# Altium schematic symbol library 15-LEDs & Displays+LCD.SchLib: 114 symbols
Pins are listed as number, name and electrical type; pins without a type are passive.

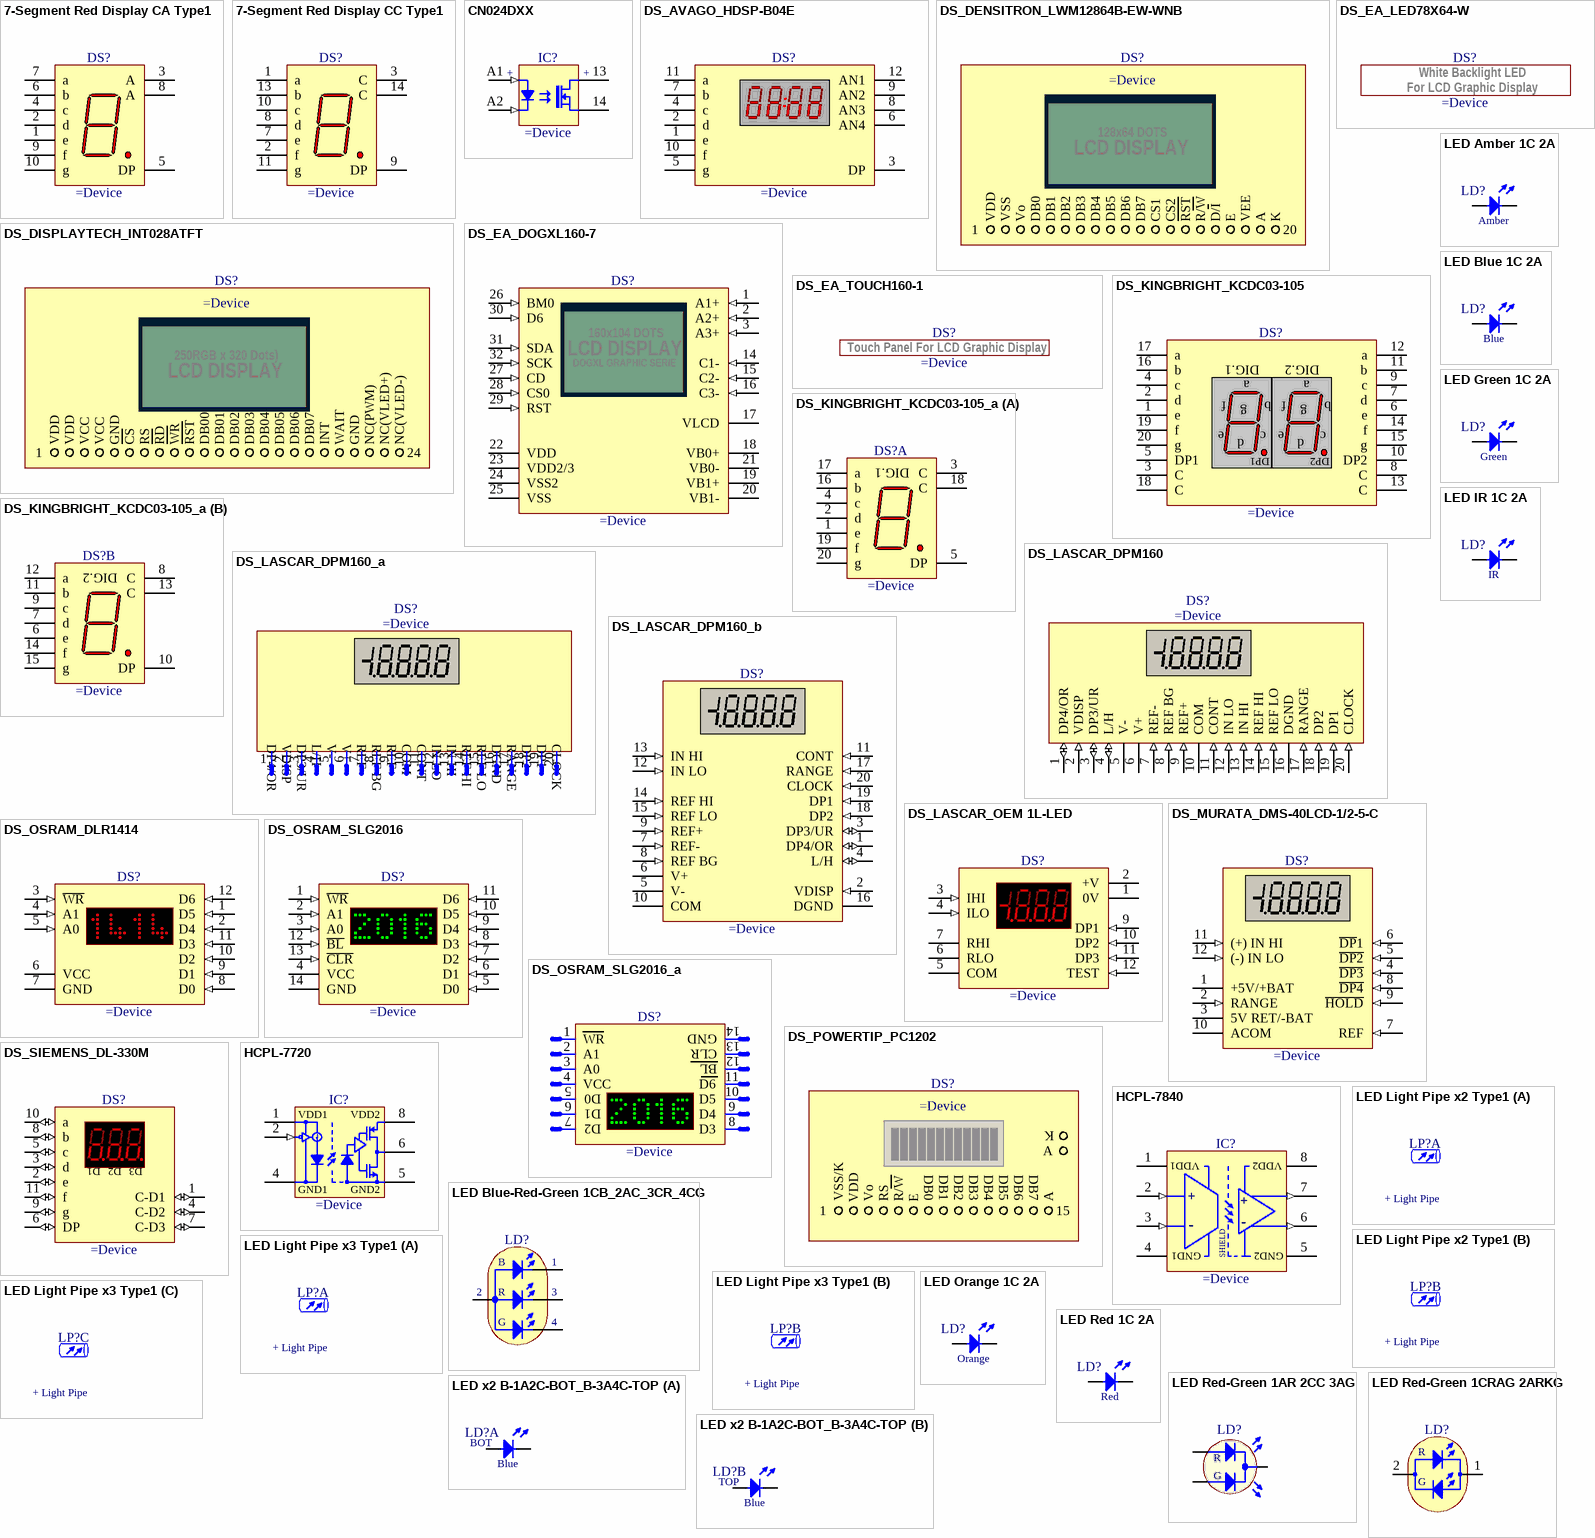
[diagram p0: symbols 7-Segment Red Display CA Type1 to LED x2 B-1A2C-BOT_B-3A4C-TOP]

## 7-Segment Red Display CA Type1
designator DS?
7-Segment Red Display Common Anode
pins: 1 e "Cathode", 2 d "Cathode", 3 A "Anode", 4 c "Cathode", 5 DP "Cathode", 6 b "Cathode", 7 a "Cathode", 8 A "Anode", 9 f "Cathode", 10 g "Cathode"

## 7-Segment Red Display CC Type1
designator DS?
7-Segment Red Display Common Anode
pins: 1 a "Cathode", 2 f "Cathode", 3 C "Anode", 7 e "Cathode", 8 d "Anode", 9 DP "Cathode", 10 c "Cathode", 11 g "Anode", 13 b "Anode", 14 C "Anode"

## CN024DXX
designator IC?
24VDC Solid State Relay
pins: 13, 14, A1 (in), A2 (in)
text: +

## DS_AVAGO_HDSP-B04E
designator DS?
Four Digit 0.56" GaP HER Seven Segment Display
pins: 1 e "Cathode", 2 d "Cathode", 3 DP "Cathode", 4 c "Cathode", 5 g "Cathode", 6 AN4 "Anode", 7 b "Cathode", 8 AN3 "Anode", 9 AN2 "Anode", 10 f "Cathode", 11 a "Cathode", 12 AN1 "Anode"

## DS_DENSITRON_LWM12864B-EW-WNB
designator DS?
LCD Display Module, 128x64 Dots,Transmissive Negative, BL White LED, Wide Temp, Negative Voltage Generator, STN Blue
text: 128x64 DOTS; LCD DISPLAY; VDD; VSS; Vo; DB0; DB1; DB2; DB3; DB4; DB5; DB6; DB7; CS1; CS2; RST; R/W; D/I; E; VEE; A; K; 1; 20

## DS_DISPLAYTECH_INT028ATFT
designator DS?
2.8" Integrated TFT Display Module (250RGB x 320 Dots), Body 71.2 x60mm
text: 250RGB x 320 Dots); LCD DISPLAY; VDD; VCC; GND; CS; RS; RD; WR; RST; DB00; DB01; DB02; DB03; DB04; DB05; DB06; DB07; INT; WAIT; NC(PWM); NC(VLED+); NC(VLED-); 1; 24

## DS_EA_DOGXL160-7
designator DS?
160x104-Pixel  LCD Graphics Display
pins: 1 A1+ (in), 2 A2+ (in), 3 A3+ (in), 14 C1- (in), 15 C2- (in), 16 C3- (in), 17 VLCD (power), 18 VB0+, 19 VB1+, 20 VB1-, 21 VB0-, 22 VDD (power), 23 VDD2/3 (power), 24 VSS2 (power), 25 VSS (power), 26 BM0 (in), 27 CD (in), 28 CS0 (in), 29 RST (in), 30 D6 (in), 31 SDA (in), 32 SCK (in)
text: 160x104 DOTS; LCD DISPLAY; DOGXL GRAPHIC SERIE

## DS_EA_LED78X64-W
designator DS?
White LED Backlight for 60x104-Pixel  LCD Graphics Display
text: White Backlight LED; For LCD Graphic Display

## DS_EA_TOUCH160-1
designator DS?
Analogue Touch Panel For LCD DOGXL160 Graphic Display
text: Touch Panel For LCD Graphic Display

## DS_KINGBRIGHT_KCDC03-105
designator DS?
Dual Digit, SMD 7-Segment Common Cathode Hyper Red Display
pins: 1 e "Cathode", 2 d "Cathode", 3 C "Anode", 4 c "Cathode", 5 DP1 "Cathode", 6 e "Cathode", 7 d "Cathode", 8 C "Anode", 9 c "Cathode", 10 DP2 "Cathode", 11 b "Cathode", 12 a "Cathode", 13 C "Anode", 14 f "Cathode", 15 g "Cathode", 16 b "Cathode", 17 a "Cathode", 18 C "Anode", 19 f "Cathode", 20 g "Cathode"
text: DIG.1; DIG.2

## DS_KINGBRIGHT_KCDC03-105_a
designator DS?
Dual Digit, SMD 7-Segment Common Cathode Hyper Red Display
part A pins: 1 e "Cathode", 2 d "Cathode", 3 C "Anode", 4 c "Cathode", 5 DP "Cathode", 16 b "Cathode", 17 a "Cathode", 18 C "Anode", 19 f "Cathode", 20 g "Cathode"
part B pins: 6 e "Cathode", 7 d "Cathode", 8 C "Anode", 9 c "Cathode", 10 DP "Cathode", 11 b "Cathode", 12 a "Cathode", 13 C "Anode", 14 f "Cathode", 15 g "Cathode"
part A text: DIG.1
part B text: DIG.2

## DS_LASCAR_DPM160
designator DS?
4½ Digit LCD Voltmeter With 12.5mm (0.5") Digit Height
pins: 1 DP4/OR (io), 2 VDISP (in), 3 DP3/UR (io), 4 L/H (io), 5 V- (power), 6 V+ (power), 7 REF- (in), 8 REF BG (in), 9 REF+ (in), 10 COM (power), 11 CONT (in), 12 IN LO (in), 13 IN HI (in), 14 REF HI (in), 15 REF LO (in), 16 DGND (power), 17 RANGE (in), 18 DP2 (in), 19 DP1 (in), 20 CLOCK (in)

## DS_LASCAR_DPM160_a
designator DS?
4½ Digit LCD Voltmeter With 12.5mm (0.5") Digit Height
text: DP4/OR; VDISP; DP3/UR; L/H; V-; V+; REF-; REF BG; REF+; COM; CONT; IN LO; IN HI; REF HI; REF LO; DGND; RANGE; DP2; DP1; CLOCK; 1; 2; 3; 4; 5; 6; 7; 8; 9; 10; 11; 12; 13; 14; 15; 16; 17; 18; 19; 20

## DS_LASCAR_DPM160_b
designator DS?
4½ Digit LCD Voltmeter With 12.5mm (0.5") Digit Height
pins: 1 DP4/OR (io), 2 VDISP (in), 3 DP3/UR (io), 4 L/H (io), 5 V- (power), 6 V+ (power), 7 REF- (in), 8 REF BG (in), 9 REF+ (in), 10 COM (power), 11 CONT (in), 12 IN LO (in), 13 IN HI (in), 14 REF HI (in), 15 REF LO (in), 16 DGND (power), 17 RANGE (in), 18 DP2 (in), 19 DP1 (in), 20 CLOCK (in)

## DS_LASCAR_OEM 1L-LED
designator DS?
3½ Digit LED Voltmeter Module
pins: 1 0V (power), 2 +V (power), 3 IHI (in), 4 ILO (in), 5 COM, 6 RLO, 7 RHI, 9 DP1 (in) "Data Input", 10 DP2 (in) "Data Input", 11 DP3 (in) "Data Input", 12 TEST (in) "Data Input"

## DS_MURATA_DMS-40LCD-1/2-5-C
designator DS?
±2V/±20V Input, Single 5V Supply, 4 1/2 Digit, LCD Display Digital Panel Voltmeters
pins: 1 +5V/+BAT (power), 2 RANGE (in), 3 5V RET/-BAT (power), 4 ~{DP3} (in), 5 ~{DP2} (in), 6 ~{DP}1 (in), 7 REF (in), 8 ~{DP4} (in), 9 ~{HOLD} (in) "Data Input", 10 ACOM (power) "Data Input", 11 (+) IN HI (in) "Data Input", 12 (-) IN LO (in) "Data Input"

## DS_OSRAM_DLR1414
designator DS?
0.145" 4-Character 5 x 7 Dot Matrix Alphanumeric Intelligent Display® Devices with Memory/Decoder/Driver
pins: 1 D5 (in) "Data Input", 2 D4 (in) "Data Input", 3 ~{WR} (in) "Write", 4 A1 (in) "Digit Select", 5 A0 (in) "Digit Select", 6 VCC (power), 7 GND (power), 8 D0 (in) "Data Input (LSB)", 9 D1 (in) "Data Input", 10 D2 (in) "Data Input", 11 D3 (in) "Data Input", 12 D6 (in) "Data Input"

## DS_OSRAM_SLG2016
designator DS?
0.145" 4-Character 5 x 7 Dot Matrix Alphanumeric Intelligent Display
pins: 1 ~{WR} (in), 2 A1 (in), 3 A0 (in), 4 VCC (power), 5 D0 (in), 6 D1 (in), 7 D2 (in), 8 D3 (in), 9 D4 (in), 10 D5 (in), 11 D6 (in), 12 ~{BL} (in), 13 ~{CLR} (in), 14 GND (power)

## DS_OSRAM_SLG2016_a
designator DS?
0.145" 4-Character 5 x 7 Dot Matrix Alphanumeric Intelligent Display
text: 1; 14; WR; GND; 2; 13; A1; CLR; 3; 12; A0; BL; 4; 11; VCC; D6; 5; 10; D0; D5; 6; 9; D1; D4; 7; 8; D2; D3

## DS_POWERTIP_PC1202
designator DS?
Alphanumeric LCD Display Module, 2 x 12 characters, Dot Size:0.45 x 0.60, Dot Pitch 0.55 x 0.70
text: K; A; VSS/K; VDD; R/W; DB0; DB1; DB2; DB3; DB4; DB5; DB6; DB7; Vo; RS; E; 1; 15

## DS_SIEMENS_DL-330M
designator DS?
Red Seven Segments Magnified Monolithic Numeric Display
pins: 1 C-D1 (io), 2 e (io), 3 d (io), 4 C-D2 (io), 5 c (io), 6 DP (io), 7 C-D3 (io), 8 b (io), 9 g (io), 10 a (io), 11 f (io)
text: D1; D2; D3

## HCPL-7720
designator IC?
40ns Propagation Delay, CMOS Optocoupler
pins: 1 VDD1 (power), 2 VI (in), 3 NC hidden, 4 GND1 (power), 5 GND2 (power), 6 VO (oc), 7 NC hidden, 8 VDD2 (power)

## HCPL-7840
designator IC?
Isolation Amplifier
pins: 1 VDD1 (power), 2 VP (in), 3 VN (in), 4 GND1 (power), 5 GND2 (power), 6 VOUT- (out), 7 VOUT+ (out), 8 VDD2 (power)
text: +; -; SHIELD

## LED Amber 1C 2A
designator LD?
LED Amber 1C 2A
pins: 1 C, 2 A
text: Amber

## LED Blue 1C 2A
designator LD?
LED Blue 1C 2A
pins: 1 C, 2 A
text: Blue

## LED Blue-Red-Green 1CB_2AC_3CR_4CG
designator LD?
Tricolor LEDs 1 Cathode Blue, 2 Common Anode, 3 Cathode Red, 4 Cathode Green
pins: 1 CB, 2 AC, 3 CR, 4 CG
text: B; R; G

## LED Green 1C 2A
designator LD?
LED Green 1C 2A
pins: 1 C, 2 A
text: Green

## LED IR 1C 2A
designator LD?
LED Infrared Emitting Diode 1C 2A
pins: 1 C, 2 A
text: IR

## LED Light Pipe x2 Type1
designator LP?
LED Light Pipe x2 Type1
part A text: + Light Pipe
part B text: + Light Pipe

## LED Light Pipe x3 Type1
designator LP?
LED Light Pipe x3 Type1
part A text: + Light Pipe
part B text: + Light Pipe
part C text: + Light Pipe

## LED Orange 1C 2A
designator LD?
LED Orange 1C 2A
pins: 1 C, 2 A
text: Orange

## LED Red 1C 2A
designator LD?
LED Red 1C 2A
pins: 1 C, 2 A
text: Red

## LED Red-Green 1AR 2CC 3AG
designator LD?
Bicolor Red/Green  LED 1 Anode Red 2 Com Cathode 3 Anode Green
pins: 1 AR, 2 CC, 3 AG
text: R; G

## LED Red-Green 1CRAG 2ARKG
designator LD?
Red/ Green Bi color LED Pin 1 = Cathode Red Anode Green
pins: 1 CR, 2 AR
text: R; G

## LED x2 B-1A2C-BOT_B-3A4C-TOP
designator LD?
LED x2 Blue LED
part A pins: 1 A, 2 C
part B pins: 3 A, 4 C
part A text: BOT; Blue
part B text: TOP; Blue

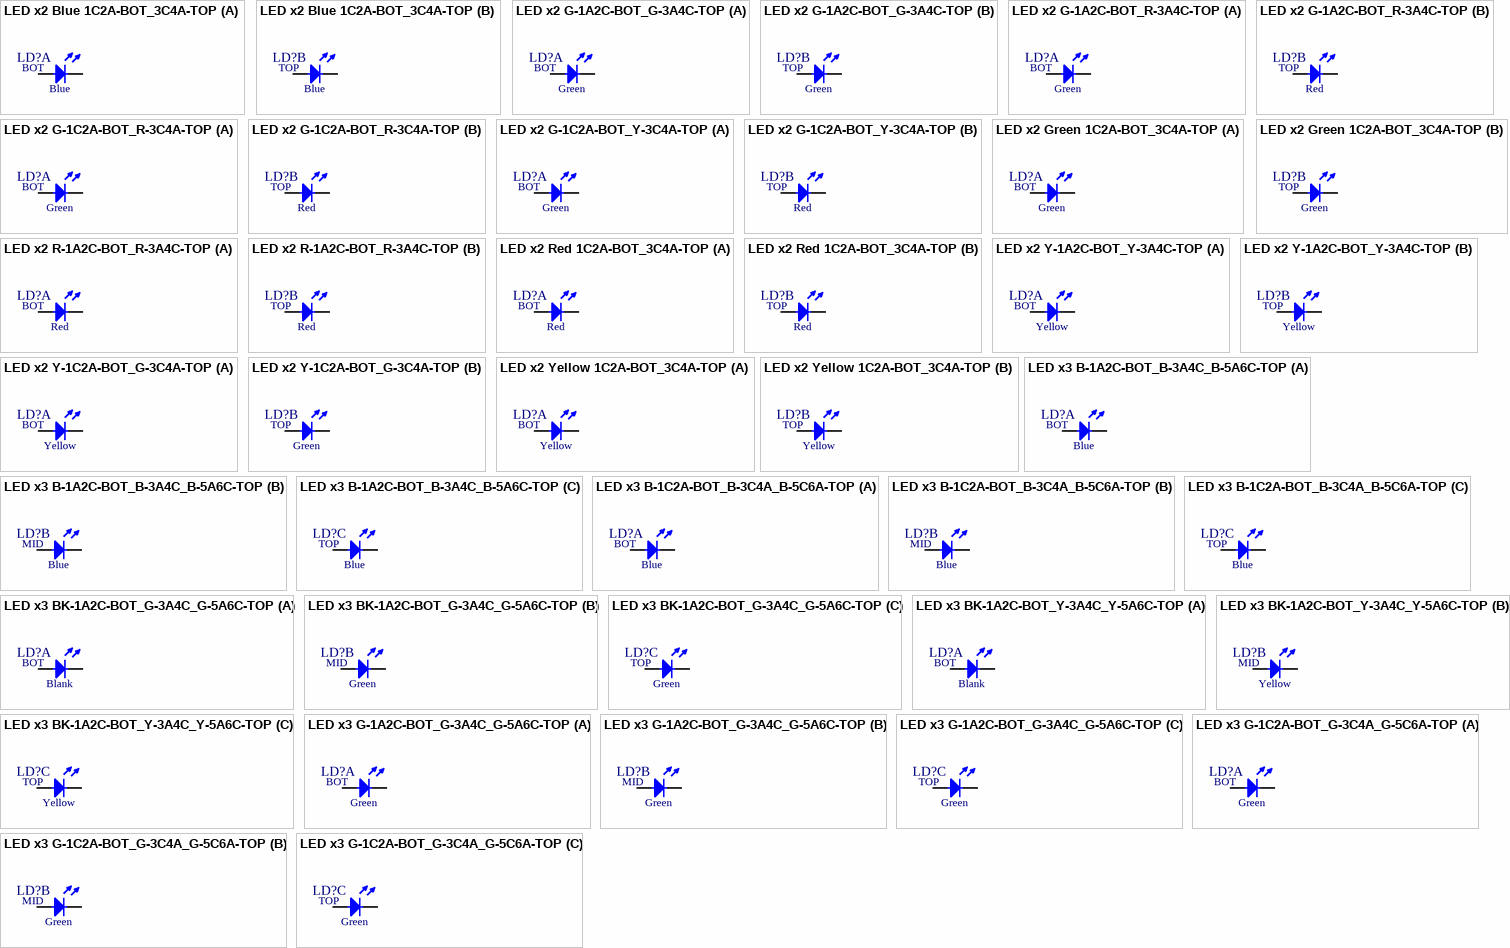
[diagram p1: symbols LED x2 Blue 1C2A-BOT_3C4A-TOP to LED x3 G-1C2A-BOT_G-3C4A_G-5C6A-TOP]

## LED x2 Blue 1C2A-BOT_3C4A-TOP
designator LD?
LED x2 Blue 1C2A-BOT_3C4A-TOP
part A pins: 1 C, 2 A
part B pins: 3 C, 4 A
part A text: BOT; Blue
part B text: TOP; Blue

## LED x2 G-1A2C-BOT_G-3A4C-TOP
designator LD?
LED x2 Green LED
part A pins: 1 A, 2 C
part B pins: 3 A, 4 C
part A text: BOT; Green
part B text: TOP; Green

## LED x2 G-1A2C-BOT_R-3A4C-TOP
designator LD?
LED x2 Green LED + Red LED
part A pins: 1 A, 2 C
part B pins: 3 A, 4 C
part A text: BOT; Green
part B text: TOP; Red

## LED x2 G-1C2A-BOT_R-3C4A-TOP
designator LD?
2x LED  Botom Green, Top Red
part A pins: 1 C, 2 A
part B pins: 3 C, 4 A
part A text: BOT; Green
part B text: TOP; Red

## LED x2 G-1C2A-BOT_Y-3C4A-TOP
designator LD?
2x LED  Botom Green, Top Yellow
part A pins: 1 C, 2 A
part B pins: 3 C, 4 A
part A text: BOT; Green
part B text: TOP; Red

## LED x2 Green 1C2A-BOT_3C4A-TOP
designator LD?
LED x2 Green 1C2A-BOT_3C4A-TOP
part A pins: 1 C, 2 A
part B pins: 3 C, 4 A
part A text: BOT; Green
part B text: TOP; Green

## LED x2 R-1A2C-BOT_R-3A4C-TOP
designator LD?
LED x2 Red LED
part A pins: 1 A, 2 C
part B pins: 3 A, 4 C
part A text: BOT; Red
part B text: TOP; Red

## LED x2 Red 1C2A-BOT_3C4A-TOP
designator LD?
LED x2 Red 1C2A-BOT_3C4A-TOP
part A pins: 1 C, 2 A
part B pins: 3 C, 4 A
part A text: BOT; Red
part B text: TOP; Red

## LED x2 Y-1A2C-BOT_Y-3A4C-TOP
designator LD?
LED x2 Yellow LED
part A pins: 1 A, 2 C
part B pins: 3 A, 4 C
part A text: BOT; Yellow
part B text: TOP; Yellow

## LED x2 Y-1C2A-BOT_G-3C4A-TOP
designator LD?
2x LED  Botom Yellow, Top Green
part A pins: 1 C, 2 A
part B pins: 3 C, 4 A
part A text: BOT; Yellow
part B text: TOP; Green

## LED x2 Yellow 1C2A-BOT_3C4A-TOP
designator LD?
LED x2 Yellow 1C2A-BOT_3C4A-TOP
part A pins: 1 C, 2 A
part B pins: 3 C, 4 A
part A text: BOT; Yellow
part B text: TOP; Yellow

## LED x3 B-1A2C-BOT_B-3A4C_B-5A6C-TOP
designator LD?
LED x3 Blue LED
part A pins: 1 A, 2 C
part B pins: 3 A, 4 C
part C pins: 5 A, 6 C
part A text: BOT; Blue
part B text: MID; Blue
part C text: TOP; Blue

## LED x3 B-1C2A-BOT_B-3C4A_B-5C6A-TOP
designator LD?
LED x3 Blue LED
part A pins: 1 C, 2 A
part B pins: 3 C, 4 A
part C pins: 5 C, 6 A
part A text: BOT; Blue
part B text: MID; Blue
part C text: TOP; Blue

## LED x3 BK-1A2C-BOT_G-3A4C_G-5A6C-TOP
designator LD?
LED x3  Top Green, Middle Green, Bottom Blank
part A pins: 1 A, 2 C
part B pins: 3 A, 4 C
part C pins: 5 A, 6 C
part A text: BOT; Blank
part B text: MID; Green
part C text: TOP; Green

## LED x3 BK-1A2C-BOT_Y-3A4C_Y-5A6C-TOP
designator LD?
LED x3  Top Yellow, Middle Yellow, Bottom Blank
part A pins: 1 A, 2 C
part B pins: 3 A, 4 C
part C pins: 5 A, 6 C
part A text: BOT; Blank
part B text: MID; Yellow
part C text: TOP; Yellow

## LED x3 G-1A2C-BOT_G-3A4C_G-5A6C-TOP
designator LD?
LED x3 Green LED
part A pins: 1 A, 2 C
part B pins: 3 A, 4 C
part C pins: 5 A, 6 C
part A text: BOT; Green
part B text: MID; Green
part C text: TOP; Green

## LED x3 G-1C2A-BOT_G-3C4A_G-5C6A-TOP
designator LD?
LED x3 Green LED
part A pins: 1 C, 2 A
part B pins: 3 C, 4 A
part C pins: 5 C, 6 A
part A text: BOT; Green
part B text: MID; Green
part C text: TOP; Green

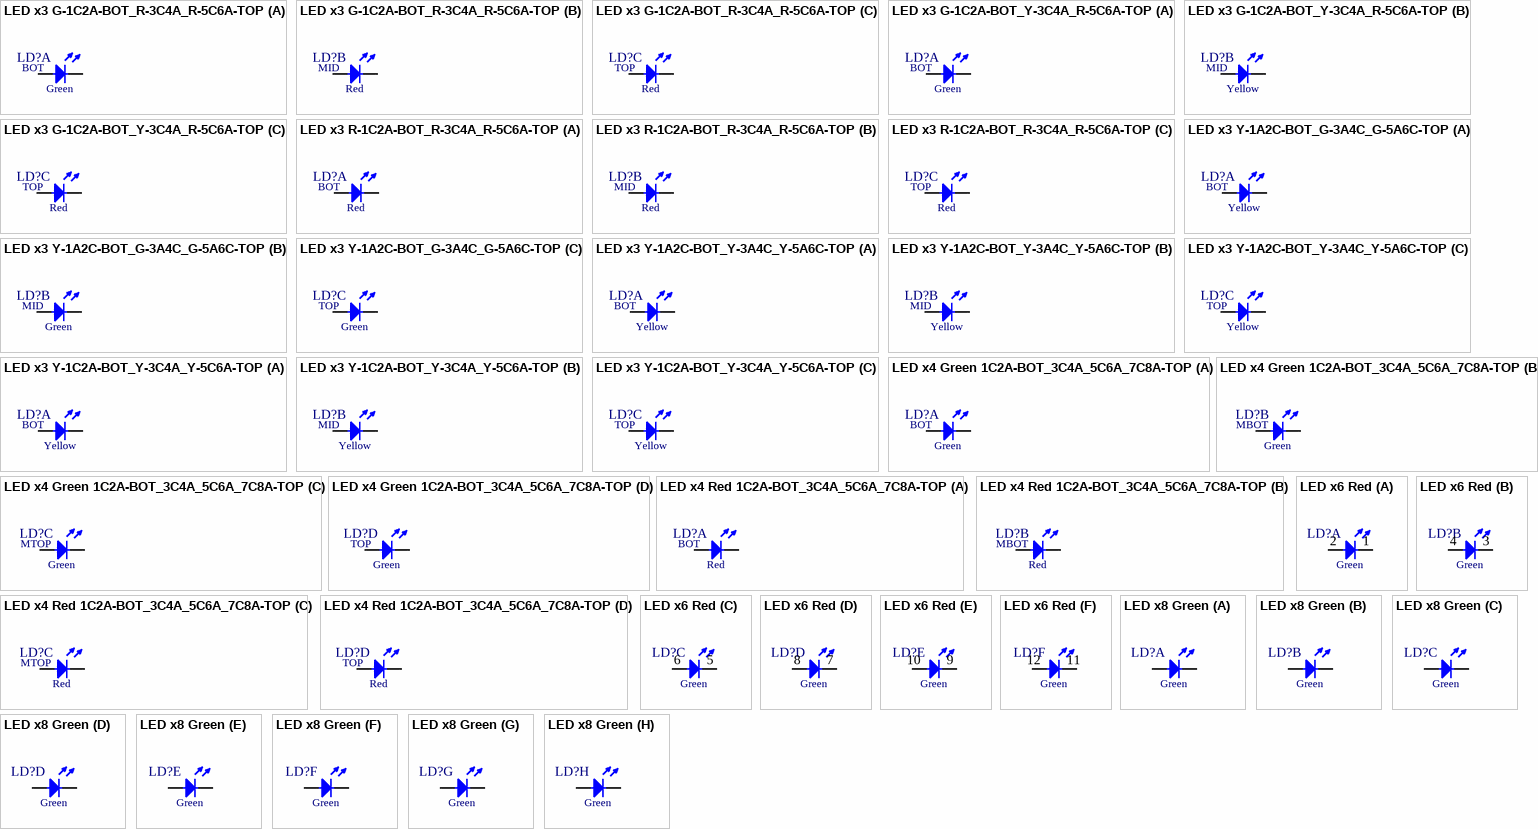
[diagram p2: symbols LED x3 G-1C2A-BOT_R-3C4A_R-5C6A-TOP to LED x8 Green]

## LED x3 G-1C2A-BOT_R-3C4A_R-5C6A-TOP
designator LD?
LED x3  Top Red, Middle Red, Bottom Green
part A pins: 1 A, 2 C
part B pins: 3 A, 4 C
part C pins: 5 A, 6 C
part A text: BOT; Green
part B text: MID; Red
part C text: TOP; Red

## LED x3 G-1C2A-BOT_Y-3C4A_R-5C6A-TOP
designator LD?
LED x3 G-1C2A-BOT_Y-3C4A_R-5C6A-TOP
part A pins: 1 C, 2 A
part B pins: 3 C, 4 A
part C pins: 5 C, 6 A
part A text: BOT; Green
part B text: MID; Yellow
part C text: TOP; Red

## LED x3 R-1C2A-BOT_R-3C4A_R-5C6A-TOP
designator LD?
LED x3 Red LED
part A pins: 1 C, 2 A
part B pins: 3 C, 4 A
part C pins: 5 C, 6 A
part A text: BOT; Red
part B text: MID; Red
part C text: TOP; Red

## LED x3 Y-1A2C-BOT_G-3A4C_G-5A6C-TOP
designator LD?
LED x3  Top Green, Middle Green, Bottom Yellow
part A pins: 1 A, 2 C
part B pins: 3 A, 4 C
part C pins: 5 A, 6 C
part A text: BOT; Yellow
part B text: MID; Green
part C text: TOP; Green

## LED x3 Y-1A2C-BOT_Y-3A4C_Y-5A6C-TOP
designator LD?
LED x3 Yellow LED
part A pins: 1 A, 2 C
part B pins: 3 A, 4 C
part C pins: 5 A, 6 C
part A text: BOT; Yellow
part B text: MID; Yellow
part C text: TOP; Yellow

## LED x3 Y-1C2A-BOT_Y-3C4A_Y-5C6A-TOP
designator LD?
LED x3 Yellow LED
part A pins: 1 C, 2 A
part B pins: 3 C, 4 A
part C pins: 5 C, 6 A
part A text: BOT; Yellow
part B text: MID; Yellow
part C text: TOP; Yellow

## LED x4 Green 1C2A-BOT_3C4A_5C6A_7C8A-TOP
designator LD?
LED x4 Green 1C2A-BOT_3C4A_5C6A_7C8A-TOP
part A pins: 1 C, 2 A
part B pins: 3 C, 4 A
part C pins: 5 C, 6 A
part D pins: 7 C, 8 A
part A text: BOT; Green
part B text: MBOT; Green
part C text: MTOP; Green
part D text: TOP; Green

## LED x4 Red 1C2A-BOT_3C4A_5C6A_7C8A-TOP
designator LD?
LED x4 Red 1C2A-BOT_3C4A_5C6A_7C8A-TOP
part A pins: 1 C, 2 A
part B pins: 3 C, 4 A
part C pins: 5 C, 6 A
part D pins: 7 C, 8 A
part A text: BOT; Red
part B text: MBOT; Red
part C text: MTOP; Red
part D text: TOP; Red

## LED x6 Red
designator LD?
Green LED Array x6
part A pins: 1 C, 2 A
part B pins: 3 C, 4 A
part C pins: 5 C, 6 A
part D pins: 7 C, 8 A
part E pins: 9 C, 10 A
part F pins: 11 C, 12 A
part A text: Green
part B text: Green
part C text: Green
part D text: Green
part E text: Green
part F text: Green

## LED x8 Green
designator LD?
Green LED Array x8
part A pins: 1 C, 2 A
part B pins: 3 C, 4 A
part C pins: 5 C, 6 A
part D pins: 7 C, 8 A
part E pins: 9 C, 10 A
part F pins: 11 C, 12 A
part G pins: 13 C, 14 A
part H pins: 15 C, 16 A
part A text: Green
part B text: Green
part C text: Green
part D text: Green
part E text: Green
part F text: Green
part G text: Green
part H text: Green

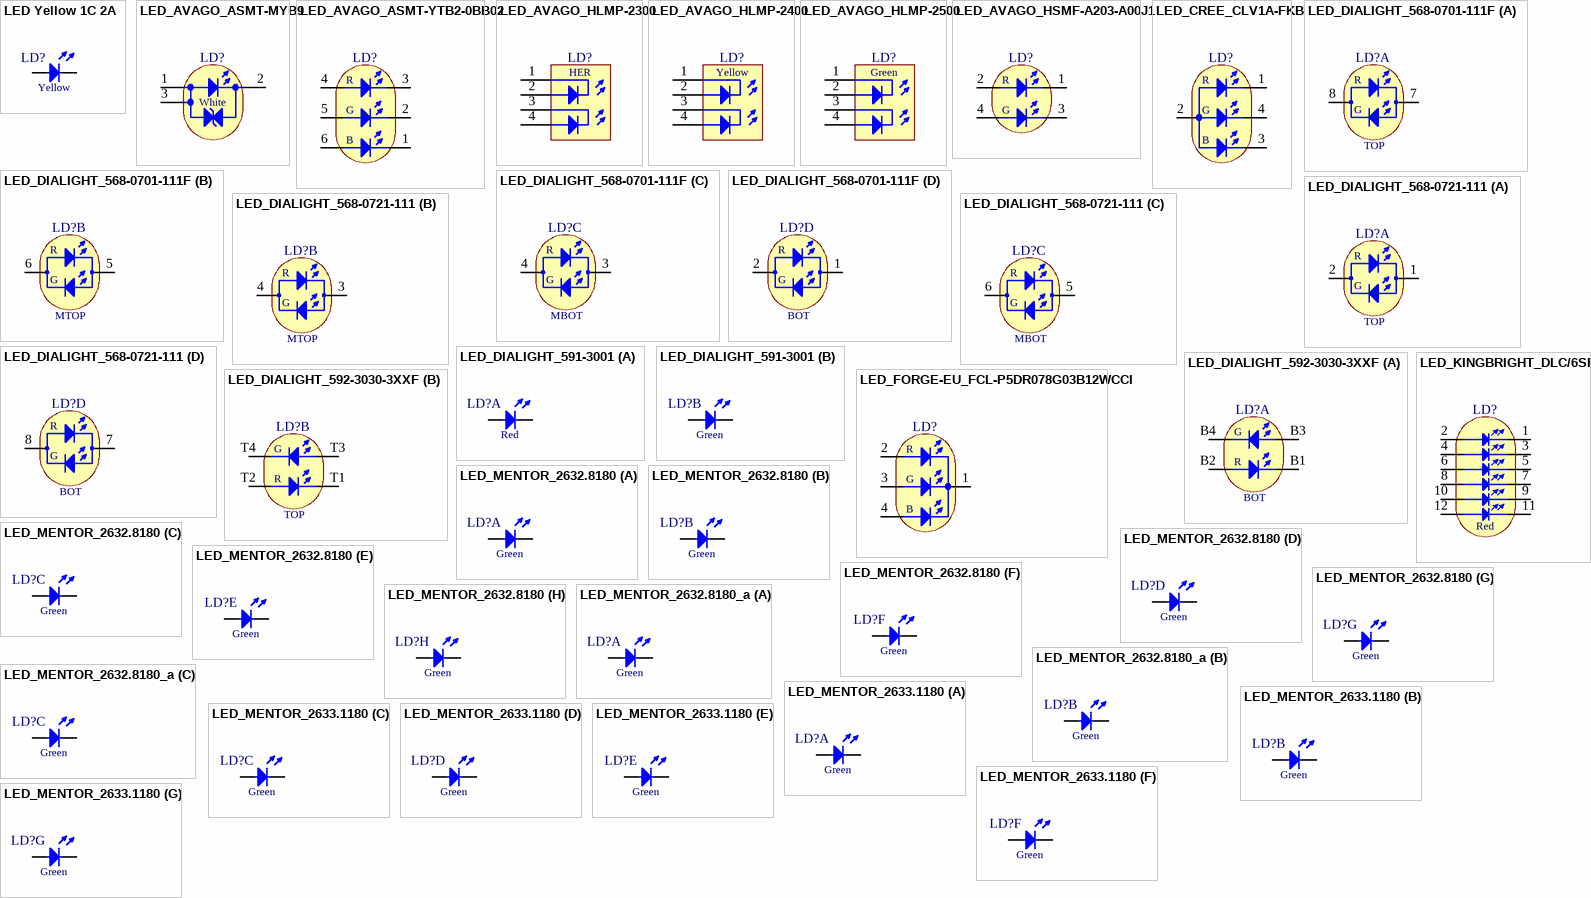
[diagram p3: symbols LED Yellow 1C 2A to LED_MENTOR_2633.1180]

## LED Yellow 1C 2A
designator LD?
LED Yellow 1C 2A
pins: 1 C, 2 A
text: Yellow

## LED_AVAGO_ASMT-MYB9
designator LD?
White LED with Exposed Pad
pins: 1 A, 2 C, 3 HS
text: White

## LED_AVAGO_ASMT-YTB2-0BB02
designator LD?
High Brightness Tricolor (RGB) Surface Mount LED With Black Top Surface
pins: 1 CB, 2 CG, 3 CR, 4 AR, 5 AG, 6 AB
text: R; G; B

## LED_AVAGO_HLMP-2300
designator LD?
HER LED Bar Module (2 LEDs)
pins: 1 1C, 2 1A, 3 3C, 4 2A
text: HER

## LED_AVAGO_HLMP-2400
designator LD?
Yellow LED Bar Module (2 LEDs)
pins: 1 1C, 2 1A, 3 3C, 4 2A
text: Yellow

## LED_AVAGO_HLMP-2500
designator LD?
Green LED Bar Module (2 LEDs)
pins: 1 1C, 2 1A, 3 3C, 4 2A
text: Green

## LED_AVAGO_HSMF-A203-A00J1
designator LD?
Red/ Green Bi color LED
pins: 1 CR, 2 AR, 3 CG, 4 AG
text: R; G

## LED_CREE_CLV1A-FKB
designator LD?
Tricolor (RGB) PLCC4 Surface Mount LED With Black Top Surface
pins: 1 CR, 2 AC, 3 CB, 4 CG
text: R; G; B

## LED_DIALIGHT_568-0701-111F
designator LD?
4 x Red/ Green Bi color LED Pin 1 = Cathode Red Anode Green Bottom LED
part A pins: 7 CR, 8 AR
part B pins: 5 CR, 6 AR
part C pins: 3 CR, 4 AR
part D pins: 1 CR, 2 AR
part A text: R; G; TOP
part B text: R; G; MTOP
part C text: R; G; MBOT
part D text: R; G; BOT

## LED_DIALIGHT_568-0721-111
designator LD?
4 x Red/ Green Bi color LED Pin 1 = Cathode Red Anode Green Top LED
part A pins: 1 CR, 2 AR
part B pins: 3 CR, 4 AR
part C pins: 5 CR, 6 AR
part D pins: 7 CR, 8 AR
part A text: R; G; TOP
part B text: R; G; MTOP
part C text: R; G; MBOT
part D text: R; G; BOT

## LED_DIALIGHT_591-3001
designator LD?
Right Angle 3mm Prism® bi-color  (Red/Green) Surface Mount LED Indicator, Serie 591
part A pins: 1 C, 2 A
part B pins: 3 A, 4 C
part A text: Red
part B text: Green

## LED_DIALIGHT_592-3030-3XXF
designator LD?
3mm Bi-Level (Top: Red/Green, Bot: Red/Green) Prism CBI Bi-color Surface Mount LED 592 Serie
part A pins: B1 CR, B2 AR, B3 AG, B4 CG
part B pins: T1 CR, T2 AR, T3 AG, T4 CG
part A text: G; R; BOT
part B text: G; R; TOP

## LED_FORGE-EU_FCL-P5DR078G03B12WCCI
designator LD?
7.6mm Square Domed Tricolor (RGB) Through Hole LED Lamp
pins: 1 CC, 2 AR, 3 AG, 4 AB
text: R; G; B

## LED_KINGBRIGHT_DLC/6SRD
designator LD?
20mm Diameter Super Bright Red (GaAlAs) Big LED Lamp
pins: 1, 2, 3, 4, 5, 6, 7, 8, 9, 10, 11, 12
text: Red

## LED_MENTOR_2632.8180
designator LD?
8x Diameter 3mm Green LED Vertical LED Array
part A pins: A1, C1
part B pins: A2, C2
part C pins: A3, C3
part D pins: A4, C4
part E pins: A5, C5
part F pins: A6, C6
part G pins: A7, C7
part H pins: A8, C8
part A text: Green
part B text: Green
part C text: Green
part D text: Green
part E text: Green
part F text: Green
part G text: Green
part H text: Green

## LED_MENTOR_2632.8180_a
designator LD?
3 LED of a Vertical Array of 8 Green 3mm LED
part A pins: A1, C1
part B pins: A2, C2
part C pins: A3, C3
part A text: Green
part B text: Green
part C text: Green

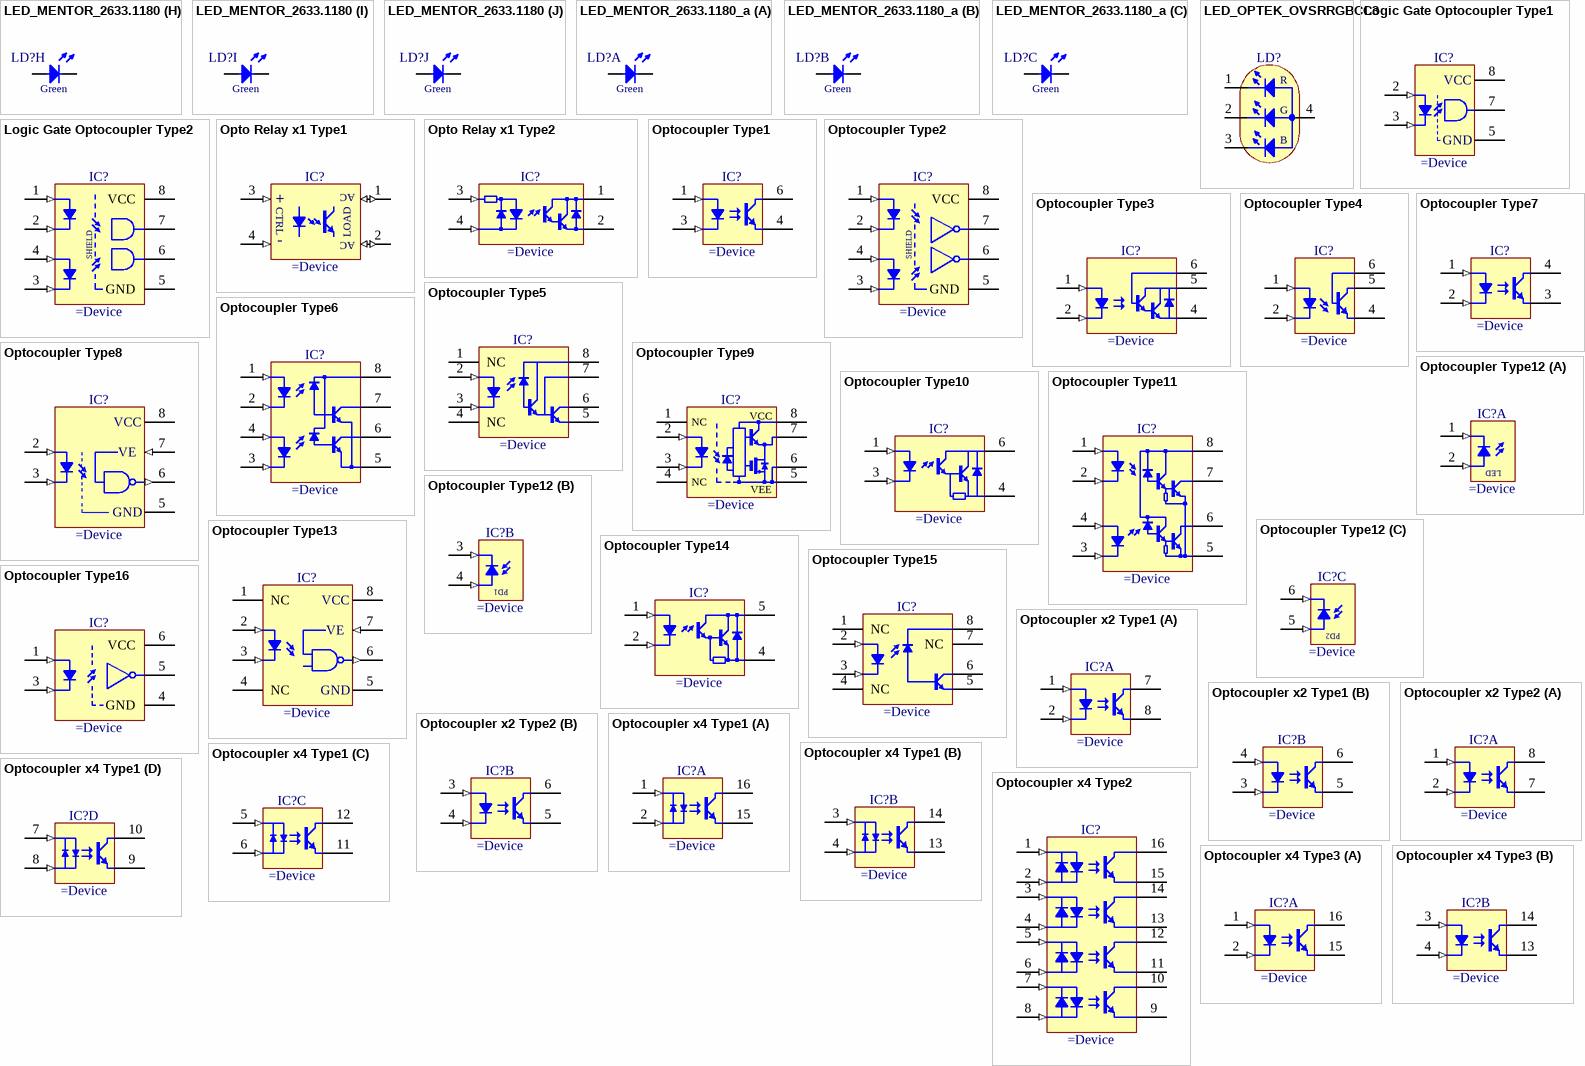
[diagram p4: symbols LED_MENTOR_2633.1180 to Optocoupler x4 Type3]

## LED_MENTOR_2633.1180
designator LD?
10x Diameter 5mm Green LED Vertical LED Array
part A pins: A1, C1
part B pins: A2, C2
part C pins: A3, C3
part D pins: A4, C4
part E pins: A5, C5
part F pins: A6, C6
part G pins: A7, C7
part H pins: A8, C8
part I pins: A9, C9
part J pins: A10, C10
part A text: Green
part B text: Green
part C text: Green
part D text: Green
part E text: Green
part F text: Green
part G text: Green
part H text: Green
part I text: Green
part J text: Green

## LED_MENTOR_2633.1180_a
designator LD?
3 LED of a Vertical Array of 10 Green 5mm LED
part A pins: A1, C1
part B pins: A2, C2
part C pins: A3, C3
part A text: Green
part B text: Green
part C text: Green

## LED_OPTEK_OVSRRGBCC3
designator LD?
Right Angle Tricolor (RGB) Surface Mount LED, Body 3.2x1mm
pins: 1 AR, 2 AG, 3 AB, 4 CC
text: R; G; B

## Logic Gate Optocoupler Type1
designator IC?
Logic Gate Optocoupler
pins: 2 A (in), 3 K (in), 5 GND (power), 7 VB, 8 VCC (power)

## Logic Gate Optocoupler Type2
designator IC?
Logic Gate Optocoupler
pins: 1 A1 (in), 2 C1 (in), 3 C2 (in), 4 A2 (in), 5 GND (power), 6 VO2 (oc), 7 VO1 (oc), 8 VCC (power)
text: SHIELD

## Opto Relay x1 Type1
designator IC?
Opto Relay x1 Type1
pins: 1 AC (io), 2 AC (io), 3 + (in), 4 - (in)
text: CTRL; LOAD

## Opto Relay x1 Type2
designator IC?
Opto Relay x1 Type2
pins: 1 1+ (oc), 2 2- (oe), 3 3+ (in), 4 4- (in)

## Optocoupler Type1
designator IC?
Single Optocoupler
pins: 1 A (in), 3 C (in), 4 E (oe), 6 C (oc)

## Optocoupler Type2
designator IC?
Dual Optocoupler
pins: 1 A1 (in), 2 C1 (in), 3 C2 (in), 4 A2 (in), 5 GND (power), 6 VO2 (oc), 7 VO1 (oc), 8 VCC (power)
text: SHIELD

## Optocoupler Type3
designator IC?
Photodarlington Optocouplers
pins: 1 A (in), 2 C (in), 4 E (oe), 5 C (oc), 6 B (oc)

## Optocoupler Type4
designator IC?
Single Optocoupler with Base
pins: 1 A (in), 2 C (in), 4 E (oe), 5 C (oc), 6 C (oc)

## Optocoupler Type5
designator IC?
Photodarlington Optocouplers
pins: 1 NC, 2 A (in), 3 C (in), 4 NC, 5 GND (oe), 6 C (oc), 7 VB, 8 VCC (oc)

## Optocoupler Type6
designator IC?
Dual Channel, Optocouplers
pins: 1 A (in), 2 C (in), 3 C (in), 4 A (in), 5 GND (oe), 6 C (oc), 7 VB, 8 VCC (oc)

## Optocoupler Type7
designator IC?
Single Optocoupler
pins: 1 A (in), 2 C (in), 3 E (oe), 4 C (oc)

## Optocoupler Type8
designator IC?
Single Optocoupler
pins: 2 A (in), 3 K (in), 5 GND (power), 6 VO (out), 7 VE (in), 8 VCC (power)

## Optocoupler Type9
designator IC?
Single Optocouplers
pins: 1 NC, 2 A (in), 3 C (in), 4 NC, 5 GND (oe), 6 C (oc), 7 VB, 8 VCC (oc)
text: VEE

## Optocoupler Type10
designator IC?
Photocoupler
pins: 1 A (in), 3 C (in), 4 E (oe), 6 C (oc)

## Optocoupler Type11
designator IC?
Dual Photodarlington Optocouplers
pins: 1 A (in), 2 C (in), 3 C (in), 4 A (in), 5 GND (power), 6 VO2 (oc), 7 VO1 (oc), 8 VCC (power)

## Optocoupler Type12
designator IC?
High-Linearity Analog Optocoupler
part A pins: 1 C (in), 2 A (in)
part B pins: 3 C (in), 4 A (in)
part C pins: 5 A (in), 6 C (in)
part A text: LED
part B text: PD1
part C text: PD2

## Optocoupler Type13
designator IC?
Single Optocoupler
pins: 1 NC, 2 A (in), 3 K (in), 4 NC, 5 GND (power), 6 VO (out), 7 VE (in), 8 VCC (power)

## Optocoupler Type14
designator IC?
Photocoupler
pins: 1 A (in), 2 C (in), 4 E (oe), 5 C (oc)

## Optocoupler Type15
designator IC?
Optocoupler
pins: 1 NC, 2 A (in), 3 C (in), 4 NC, 5 GND (oe), 6 Vo (oc), 7 NC, 8 VCC (oc)

## Optocoupler Type16
designator IC?
Single Optocoupler
pins: 1 A (in), 3 K (in), 4 GND (power), 5 VO (oc), 6 VCC (power)

## Optocoupler x2 Type1
designator IC?
Dual Optocoupler
part A pins: 1 A (in), 2 K (in), 7 C (oc), 8 E (oe)
part B pins: 3 K (in), 4 A (in), 5 E (oe), 6 C (oc)

## Optocoupler x2 Type2
designator IC?
Dual Optocoupler
part A pins: 1 A (in), 2 K (in), 7 E (oc), 8 C (oe)
part B pins: 3 A (in), 4 K (in), 5 E (oe), 6 C (oc)

## Optocoupler x4 Type1
designator IC?
Quad Optocoupler
part A pins: 1 A (in), 2 K (in), 15 E (oe), 16 C (oc)
part B pins: 3 A (in), 4 K (in), 13 E (oe), 14 C (oc)
part C pins: 5 A (in), 6 K (in), 11 E (oe), 12 C (oc)
part D pins: 7 A (in), 8 K (in), 9 E (oe), 10 C (oc)

## Optocoupler x4 Type2
designator IC?
Quad Optocoupler
pins: 1 A (in), 2 K (in), 3 A (in), 4 K (in), 5 A (in), 6 K (in), 7 A (in), 8 K (in), 9 E (oe), 10 C (oc), 11 E (oe), 12 C (oc), 13 E (oe), 14 C (oc), 15 E (oe), 16 C (oc)

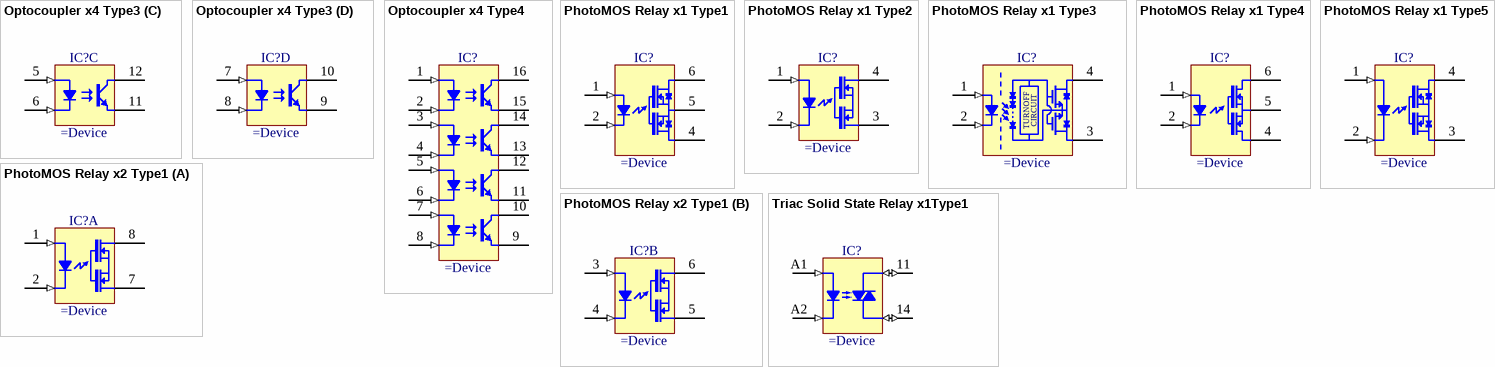
[diagram p5: symbols Optocoupler x4 Type3 to Triac Solid State Relay x1Type1]

## Optocoupler x4 Type3
designator IC?
Quad Optocoupler
part A pins: 1 A (in), 2 K (in), 15 E (oe), 16 C (oc)
part B pins: 3 A (in), 4 K (in), 13 E (oe), 14 C (oc)
part C pins: 5 A (in), 6 K (in), 11 E (oe), 12 C (oc)
part D pins: 7 A (in), 8 K (in), 9 E (oe), 10 C (oc)

## Optocoupler x4 Type4
designator IC?
Quad Optocoupler
pins: 1 A (in), 2 K (in), 3 A (in), 4 K (in), 5 A (in), 6 K (in), 7 A (in), 8 K (in), 9 E (oe), 10 C (oc), 11 E (oe), 12 C (oc), 13 E (oe), 14 C (oc), 15 E (oe), 16 C (oc)

## PhotoMOS Relay x1 Type1
designator IC?
PhotoMOS Relay
pins: 1 A (in), 2 K (in), 4, 5, 6

## PhotoMOS Relay x1 Type2
designator IC?
PhotoMOS Relay
pins: 1 A (in), 2 K (in), 3 C (oc), 4 E (oe)

## PhotoMOS Relay x1 Type3
designator IC?
PhotoMOS Relay
pins: 1 A (in), 2 K (in), 3, 4
text: TURNOFF; CIRCUIT

## PhotoMOS Relay x1 Type4
designator IC?
PhotoMOS Relay
pins: 1 A (in), 2 K (in), 4, 5, 6

## PhotoMOS Relay x1 Type5
designator IC?
PhotoMOS Relay
pins: 1 A (in), 2 K (in), 3 C (oc), 4 E (oe)

## PhotoMOS Relay x2 Type1
designator IC?
Dual PhotoMOS Relay
part A pins: 1 A (in), 2 K (in), 7 C (oc), 8 E (oe)
part B pins: 3 A (in), 4 K (in), 5 E (oe), 6 C (oc)

## Triac Solid State Relay x1Type1
designator IC?
Triac Solid State Relay
pins: 11 (io), 14 (io), A1 (in), A2 (in)